# Altium integrated library GPS_Tracker_1.IntLib: 24 symbols
Pins are listed as number, name and electrical type; pins without a type are passive.

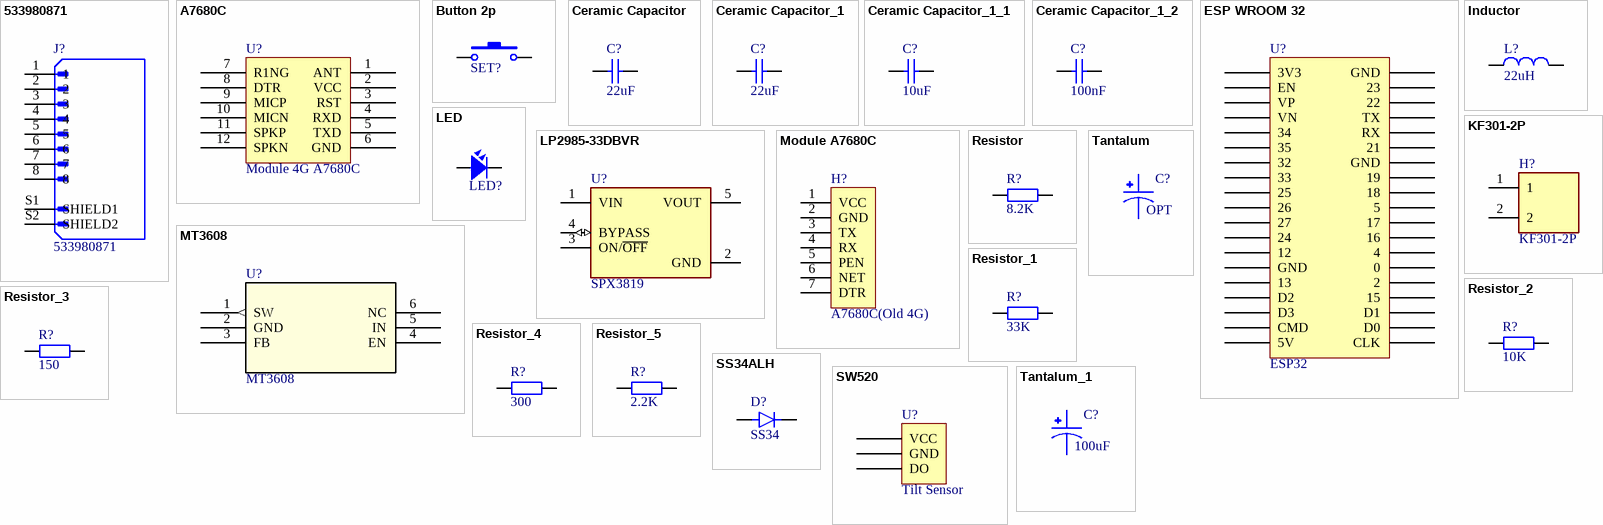
[diagram p0: symbols 533980871 to Tantalum_1]

## 533980871
designator J?
MX 1.25mm 8 pin;Conn; Rect; Header; 1.25 mm Pitch; PCB; 8 Cir; Ver; SMT; PicoBlade; LF | Molex Incorporated 53398-0871; Price: None; MP: 533980871; Availability: Unavailable; Value: *; Package: None
footprint MOLEX_533980871
pins: 1, 2, 3, 4, 5, 6, 7, 8, S1 SHIELD1, S2 SHIELD2

## A7680C
designator U?, comment Module 4G A7680C
footprint A768X-EC800M-FP
pins: 1 ANT, 2 VCC (power), 3 RST, 4 RXD, 5 TXD, 6 GND (power), 7 R1NG, 8 DTR, 9 MICP, 10 MICN, 11 SPKP, 12 SPKN

## Button 2p
designator SET?  (value not drawn)
Nut Nhan 2 Chan SMD 3x6x2.5; Ma_Hang: MH001036; Ten: Nút Nhấn 2 Chân 3x6x2.5MM SMD
footprint Button 2p 3x6x2.5 (Switch SMD type)
pins: 1, 2

## Ceramic Capacitor
designator C?, comment 22uF
Chung_Loai: Dán; Don_Vi: Con; So_Chan: 2; Ten_Linh_Kien: Tụ 0805 104-100nF 10% 50V; Ma_Hang: MH004551; Kieu_Chan: *
footprint 0603_Cap (0603 SMD Ceramic Capacitor)
footprint 0805_Cap (0805 SMD Ceramic Capacitor)
footprint 1206_CAP (3216 Tantalum Capacitor)
pins: 1, 2

## Ceramic Capacitor_1
designator C?, comment 22uF
Chung_Loai: Dán; Don_Vi: Con; So_Chan: 2; Ten_Linh_Kien: Tụ 0805 104-100nF 10% 50V; Ma_Hang: MH004551; Kieu_Chan: *
footprint 0603_Cap (0603 SMD Ceramic Capacitor)
footprint 0805_Cap (0805 SMD Ceramic Capacitor)
footprint 1206_CAP (3216 Tantalum Capacitor)
pins: 1, 2

## Ceramic Capacitor_1_1
designator C?, comment 10uF
Chung_Loai: Dán; Don_Vi: Con; So_Chan: 2; Ten_Linh_Kien: Tụ 0805 104-100nF 10% 50V; Ma_Hang: MH004551; Kieu_Chan: *
footprint 0603_Cap (0603 SMD Ceramic Capacitor)
footprint 0805_Cap (0805 SMD Ceramic Capacitor)
footprint 1206_CAP (3216 Tantalum Capacitor)
pins: 1, 2

## Ceramic Capacitor_1_2
designator C?, comment 100nF
Chung_Loai: Dán; Don_Vi: Con; So_Chan: 2; Ten_Linh_Kien: Tụ 0805 104-100nF 10% 50V; Ma_Hang: MH004551; Kieu_Chan: *
footprint 0603_Cap (0603 SMD Ceramic Capacitor)
footprint 0805_Cap (0805 SMD Ceramic Capacitor)
footprint 1206_CAP (3216 Tantalum Capacitor)
pins: 1, 2

## ESP WROOM 32
designator U?, comment ESP32
footprint MODULE_ESP32_NODEMCU
pins: ?1 3V3, ?2 EN, ?3 VP, ?4 VN, ?5 34, ?6 35, ?7 32, ?8 33, ?9 25, ?10 26, ?11 27, ?12 24, ?13 12, ?14 GND, ?15 13, ?16 D2, ?17 D3, ?18 CMD, ?19 5V, ?20 GND, ?21 23, ?22 22, ?23 TX, ?24 RX, ?25 21, ?26 GND, ?27 19, ?28 18, ?29 5, ?30 17, ?31 16, ?32 4, ?33 0, ?34 2, ?35 15, ?36 D1, ?37 D0, ?38 CLK

## Inductor
designator L?, comment 22uH
Inductors from EPCOS include SMT Inductors, SMT Power Inductors, Transponder Coils, ISDN Transformers, xDSL Transformers, DC/DC Converters, RF Transformers and SMT Current Sense Transformers.; MP: B82477G4472M000; Price: None; SnapEDA_Link: https://www.snapeda.com/parts/B82477G4472M000/EPCOS/view-part/?ref=snap; Package: NON STANDARD-2 EPCOS; Value: *; Check_prices: https://www.snapeda.com/parts/B82477G4472M000/EPCOS/view-part/?ref=eda; Availability: In Stock; MF: EPCOS; Purchase-URL: https://pricing.snapeda.com/search/part/B82477G4472M000/?ref=eda
footprint 0603_Inductor (SMD)
footprint Inductor 5A (THT)
footprint INDUCTOR CDRH104 (CDRH104 Cu?n C?m Dan SMD 1038-220 22uH 3.6A)
footprint INDUCTROR 8D43-220 (Inductor SMD 8D43-220 22uH 3.25A)
pins: 1, 2

## KF301-2P
designator H?
2 Pin Terminal Block 5mm Pitch; Price: None; Value: *; MP: KF301-2P; Package: None; Availability: Unavailable
footprint HANDSON_KF301-2P
pins: 1, 2

## LED
designator LED?  (value not drawn)
LED single color 2 leads
footprint 0603_LED (LED single color 2 leads)
footprint 0805_LED
pins: A Anode, C Cathode

## LP2985-33DBVR
designator U?, comment SPX3819
150-mA, 16-V, low-dropout voltage regulator with enable 5-SOT-23 -40 to 125; MP: LP2985-33DBVR; Package: None; Value: *; Price: None; Availability: Unavailable
footprint SOT95P280X145-5N
pins: 1 VIN, 2 GND (power), 3 ON/~{OFF}, 4 BYPASS (io), 5 VOUT

## Module A7680C
designator H?, comment A7680C(Old 4G)
SIM Module A7680C; A7672S 4G
footprint Module A7680C (Footprint for A7680C)
pins: 1 VCC, 2 GND, 3 TX, 4 RX, 5 PEN, 6 NET, 7 DTR

## MT3608
designator U?
No Description Available; Mfr_Name: Aerosemi; RefDes: RefDes; Type: Type
footprint TSOT23-6SOT23-6_AER
pins: 1 SW (out), 2 GND (power), 3 FB, 4 EN, 5 IN (power), 6 NC

## Resistor
designator R?, comment 8.2K
Chung_Loai: Dán; Don_Vi: Con; So_Chan: 2; Ten_Linh_Kien: Trở 0805 1% 1k; Ma_Hang: MH005468; Kieu_Chan: *
footprint 0805_Res (0805 SMD Resistor)
footprint 0603_Res (0603 SMD Resistor)
pins: 1, 2

## Resistor_1
designator R?, comment 33K
Chung_Loai: Dán; Don_Vi: Con; So_Chan: 2; Ten_Linh_Kien: Trở 0805 1% 1k; Ma_Hang: MH005468; Kieu_Chan: *
footprint 0805_Res (0805 SMD Resistor)
footprint 0603_Res (0603 SMD Resistor)
pins: 1, 2

## Resistor_2
designator R?, comment 10K
Chung_Loai: Dán; Don_Vi: Con; So_Chan: 2; Ten_Linh_Kien: Trở 0805 1% 1k; Ma_Hang: MH005468; Kieu_Chan: *
footprint 0805_Res (0805 SMD Resistor)
footprint 0603_Res (0603 SMD Resistor)
pins: 1, 2

## Resistor_3
designator R?, comment 150
Chung_Loai: Dán; Don_Vi: Con; So_Chan: 2; Ten_Linh_Kien: Trở 0805 1% 1k; Ma_Hang: MH005468; Kieu_Chan: *
footprint 0805_Res (0805 SMD Resistor)
footprint 0603_Res (0603 SMD Resistor)
pins: 1, 2

## Resistor_4
designator R?, comment 300
Chung_Loai: Dán; Don_Vi: Con; So_Chan: 2; Ten_Linh_Kien: Trở 0805 1% 1k; Ma_Hang: MH005468; Kieu_Chan: *
footprint 0805_Res (0805 SMD Resistor)
footprint 0603_Res (0603 SMD Resistor)
pins: 1, 2

## Resistor_5
designator R?, comment 2.2K
Chung_Loai: Dán; Don_Vi: Con; So_Chan: 2; Ten_Linh_Kien: Trở 0805 1% 1k; Ma_Hang: MH005468; Kieu_Chan: *
footprint 0805_Res (0805 SMD Resistor)
footprint 0603_Res (0603 SMD Resistor)
pins: 1, 2

## SS34ALH
designator D?, comment SS34
3A, 40V, Schottky Rectifier; MP: SS34ALH; MF: Taiwan Semiconductor; Package: DO-221AC Taiwan Semiconductor; Value: *; SnapEDA_Link: https://www.snapeda.com/parts/SS34ALH/Taiwan+Semiconductor/view-part/?ref=snap; Availability: Not in stock; Price: None; Check_prices: https://www.snapeda.com/parts/SS34ALH/Taiwan+Semiconductor/view-part/?ref=eda
footprint SODFL5226X100N
pins: 1 K, 2 A

## SW520
designator U?, comment Tilt Sensor
pins: ?1 VCC, ?2 GND, ?3 DO

## Tantalum
designator C?, comment OPT
Molded Tantalum Capacitors
footprint 2312_Tantalum
footprint 2917 _Tantalum
footprint 1206_Tantalum
pins: 1, 2

## Tantalum_1
designator C?, comment 100uF
Molded Tantalum Capacitors
footprint 2312_Tantalum
footprint 2917 _Tantalum
footprint 1206_Tantalum
pins: 1, 2